# Altium footprint library FQFP (0.3mm Pitch, Square) - Corner Index.PcbLib: 26 footprints (part 2 of 3)
Each footprint in its own frame and in the unit in brackets; x right, y up, seen from the top. Pads: shape width x height; smd on the part's side, far side on the other; paste and mask are expansions set on the pad; w line width, h text height; cw(c..) or ccw(c..) is an arc to the next point about the centre after c.
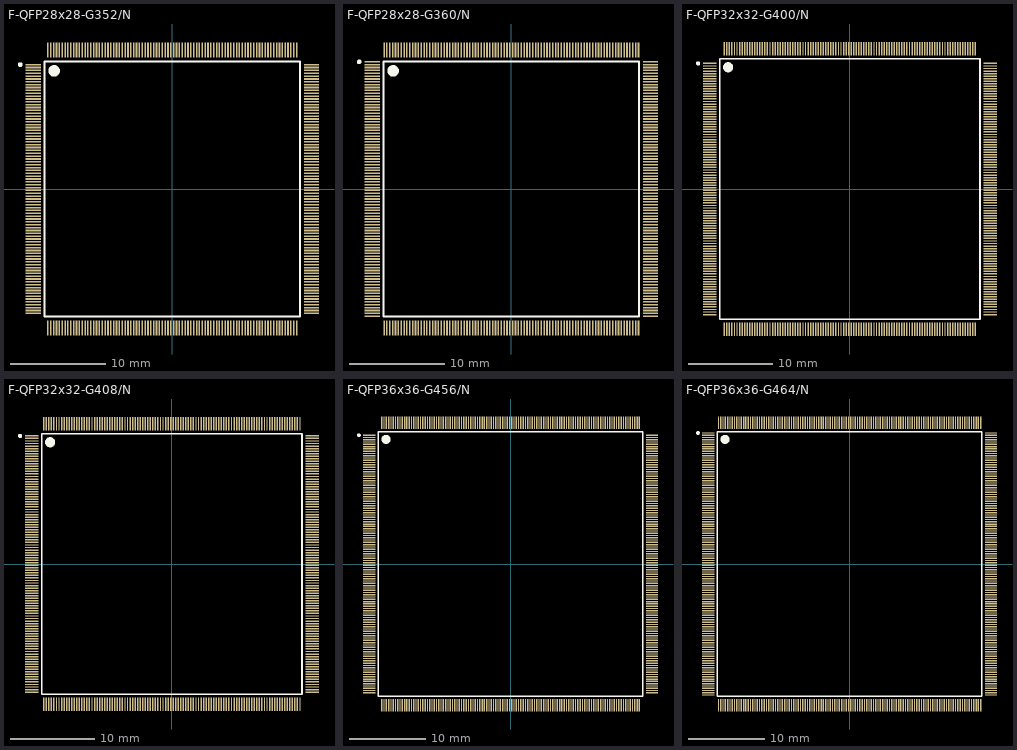
[diagram p1: the footprints below, top view; thin cyan lines are the x and y axes]

## F-QFP28x28-G352/N [mm] "QFP; 352 Leads; Body 28 x 28 mm; Pitch 0.3 mm"
height 3.75
pads (352):
  rect 1.6x0.17 smd: 1(-14.6,13.05) 2(-14.6,12.75) 3(-14.6,12.45) 4(-14.6,12.15) 5(-14.6,11.85) 6(-14.6,11.55) 7(-14.6,11.25) 8(-14.6,10.95) 9(-14.6,10.65) 10(-14.6,10.35) 11(-14.6,10.05) 12(-14.6,9.75) 13(-14.6,9.45) 14(-14.6,9.15) 15(-14.6,8.85) 16(-14.6,8.55) 17(-14.6,8.25) 18(-14.6,7.95) 19(-14.6,7.65) 20(-14.6,7.35) 21(-14.6,7.05) 22(-14.6,6.75) 23(-14.6,6.45) 24(-14.6,6.15) 25(-14.6,5.85) 26(-14.6,5.55) 27(-14.6,5.25) 28(-14.6,4.95) 29(-14.6,4.65) 30(-14.6,4.35) 31(-14.6,4.05) 32(-14.6,3.75) 33(-14.6,3.45) 34(-14.6,3.15) 35(-14.6,2.85) 36(-14.6,2.55) 37(-14.6,2.25) 38(-14.6,1.95) 39(-14.6,1.65) 40(-14.6,1.35) 41(-14.6,1.05) 42(-14.6,0.75) 43(-14.6,0.45) 44(-14.6,0.15) 45(-14.6,-0.15) 46(-14.6,-0.45) 47(-14.6,-0.75) 48(-14.6,-1.05) 49(-14.6,-1.35) 50(-14.6,-1.65) 51(-14.6,-1.95) 52(-14.6,-2.25) 53(-14.6,-2.55) 54(-14.6,-2.85) 55(-14.6,-3.15) 56(-14.6,-3.45) 57(-14.6,-3.75) 58(-14.6,-4.05) 59(-14.6,-4.35) 60(-14.6,-4.65) 61(-14.6,-4.95) 62(-14.6,-5.25) 63(-14.6,-5.55) 64(-14.6,-5.85) 65(-14.6,-6.15) 66(-14.6,-6.45) 67(-14.6,-6.75) 68(-14.6,-7.05) 69(-14.6,-7.35) 70(-14.6,-7.65) 71(-14.6,-7.95) 72(-14.6,-8.25) 73(-14.6,-8.55) 74(-14.6,-8.85) 75(-14.6,-9.15) 76(-14.6,-9.45) 77(-14.6,-9.75) 78(-14.6,-10.05) 79(-14.6,-10.35) 80(-14.6,-10.65) 81(-14.6,-10.95) 82(-14.6,-11.25) 83(-14.6,-11.55) 84(-14.6,-11.85) 85(-14.6,-12.15) 86(-14.6,-12.45) 87(-14.6,-12.75) 88(-14.6,-13.05) 177(14.6,-13.05) 178(14.6,-12.75) 179(14.6,-12.45) 180(14.6,-12.15) 181(14.6,-11.85) 182(14.6,-11.55) 183(14.6,-11.25) 184(14.6,-10.95) 185(14.6,-10.65) 186(14.6,-10.35) 187(14.6,-10.05) 188(14.6,-9.75) 189(14.6,-9.45) 190(14.6,-9.15) 191(14.6,-8.85) 192(14.6,-8.55) 193(14.6,-8.25) 194(14.6,-7.95) 195(14.6,-7.65) 196(14.6,-7.35) 197(14.6,-7.05) 198(14.6,-6.75) 199(14.6,-6.45) 200(14.6,-6.15) 201(14.6,-5.85) 202(14.6,-5.55) 203(14.6,-5.25) 204(14.6,-4.95) 205(14.6,-4.65) 206(14.6,-4.35) 207(14.6,-4.05) 208(14.6,-3.75) 209(14.6,-3.45) 210(14.6,-3.15) 211(14.6,-2.85) 212(14.6,-2.55) 213(14.6,-2.25) 214(14.6,-1.95) 215(14.6,-1.65) 216(14.6,-1.35) 217(14.6,-1.05) 218(14.6,-0.75) 219(14.6,-0.45) 220(14.6,-0.15) 221(14.6,0.15) 222(14.6,0.45) 223(14.6,0.75) 224(14.6,1.05) 225(14.6,1.35) 226(14.6,1.65) 227(14.6,1.95) 228(14.6,2.25) 229(14.6,2.55) 230(14.6,2.85) 231(14.6,3.15) 232(14.6,3.45) 233(14.6,3.75) 234(14.6,4.05) 235(14.6,4.35) 236(14.6,4.65) 237(14.6,4.95) 238(14.6,5.25) 239(14.6,5.55) 240(14.6,5.85) 241(14.6,6.15) 242(14.6,6.45) 243(14.6,6.75) 244(14.6,7.05) 245(14.6,7.35) 246(14.6,7.65) 247(14.6,7.95) 248(14.6,8.25) 249(14.6,8.55) 250(14.6,8.85) 251(14.6,9.15) 252(14.6,9.45) 253(14.6,9.75) 254(14.6,10.05) 255(14.6,10.35) 256(14.6,10.65) 257(14.6,10.95) 258(14.6,11.25) 259(14.6,11.55) 260(14.6,11.85) 261(14.6,12.15) 262(14.6,12.45) 263(14.6,12.75) 264(14.6,13.05)
  rect 0.17x1.6 smd: 89(-13.05,-14.6) 90(-12.75,-14.6) 91(-12.45,-14.6) 92(-12.15,-14.6) 93(-11.85,-14.6) 94(-11.55,-14.6) 95(-11.25,-14.6) 96(-10.95,-14.6) 97(-10.65,-14.6) 98(-10.35,-14.6) 99(-10.05,-14.6) 100(-9.75,-14.6) 101(-9.45,-14.6) 102(-9.15,-14.6) 103(-8.85,-14.6) 104(-8.55,-14.6) 105(-8.25,-14.6) 106(-7.95,-14.6) 107(-7.65,-14.6) 108(-7.35,-14.6) 109(-7.05,-14.6) 110(-6.75,-14.6) 111(-6.45,-14.6) 112(-6.15,-14.6) 113(-5.85,-14.6) 114(-5.55,-14.6) 115(-5.25,-14.6) 116(-4.95,-14.6) 117(-4.65,-14.6) 118(-4.35,-14.6) 119(-4.05,-14.6) 120(-3.75,-14.6) 121(-3.45,-14.6) 122(-3.15,-14.6) 123(-2.85,-14.6) 124(-2.55,-14.6) 125(-2.25,-14.6) 126(-1.95,-14.6) 127(-1.65,-14.6) 128(-1.35,-14.6) 129(-1.05,-14.6) 130(-0.75,-14.6) 131(-0.45,-14.6) 132(-0.15,-14.6) 133(0.15,-14.6) 134(0.45,-14.6) 135(0.75,-14.6) 136(1.05,-14.6) 137(1.35,-14.6) 138(1.65,-14.6) 139(1.95,-14.6) 140(2.25,-14.6) 141(2.55,-14.6) 142(2.85,-14.6) 143(3.15,-14.6) 144(3.45,-14.6) 145(3.75,-14.6) 146(4.05,-14.6) 147(4.35,-14.6) 148(4.65,-14.6) 149(4.95,-14.6) 150(5.25,-14.6) 151(5.55,-14.6) 152(5.85,-14.6) 153(6.15,-14.6) 154(6.45,-14.6) 155(6.75,-14.6) 156(7.05,-14.6) 157(7.35,-14.6) 158(7.65,-14.6) 159(7.95,-14.6) 160(8.25,-14.6) 161(8.55,-14.6) 162(8.85,-14.6) 163(9.15,-14.6) 164(9.45,-14.6) 165(9.75,-14.6) 166(10.05,-14.6) 167(10.35,-14.6) 168(10.65,-14.6) 169(10.95,-14.6) 170(11.25,-14.6) 171(11.55,-14.6) 172(11.85,-14.6) 173(12.15,-14.6) 174(12.45,-14.6) 175(12.75,-14.6) 176(13.05,-14.6) 265(13.05,14.6) 266(12.75,14.6) 267(12.45,14.6) 268(12.15,14.6) 269(11.85,14.6) 270(11.55,14.6) 271(11.25,14.6) 272(10.95,14.6) 273(10.65,14.6) 274(10.35,14.6) 275(10.05,14.6) 276(9.75,14.6) 277(9.45,14.6) 278(9.15,14.6) 279(8.85,14.6) 280(8.55,14.6) 281(8.25,14.6) 282(7.95,14.6) 283(7.65,14.6) 284(7.35,14.6) 285(7.05,14.6) 286(6.75,14.6) 287(6.45,14.6) 288(6.15,14.6) 289(5.85,14.6) 290(5.55,14.6) 291(5.25,14.6) 292(4.95,14.6) 293(4.65,14.6) 294(4.35,14.6) 295(4.05,14.6) 296(3.75,14.6) 297(3.45,14.6) 298(3.15,14.6) 299(2.85,14.6) 300(2.55,14.6) 301(2.25,14.6) 302(1.95,14.6) 303(1.65,14.6) 304(1.35,14.6) 305(1.05,14.6) 306(0.75,14.6) 307(0.45,14.6) 308(0.15,14.6) 309(-0.15,14.6) 310(-0.45,14.6) 311(-0.75,14.6) 312(-1.05,14.6) 313(-1.35,14.6) 314(-1.65,14.6) 315(-1.95,14.6) 316(-2.25,14.6) 317(-2.55,14.6) 318(-2.85,14.6) 319(-3.15,14.6) 320(-3.45,14.6) 321(-3.75,14.6) 322(-4.05,14.6) 323(-4.35,14.6) 324(-4.65,14.6) 325(-4.95,14.6) 326(-5.25,14.6) 327(-5.55,14.6) 328(-5.85,14.6) 329(-6.15,14.6) 330(-6.45,14.6) 331(-6.75,14.6) 332(-7.05,14.6) 333(-7.35,14.6) 334(-7.65,14.6) 335(-7.95,14.6) 336(-8.25,14.6) 337(-8.55,14.6) 338(-8.85,14.6) 339(-9.15,14.6) 340(-9.45,14.6) 341(-9.75,14.6) 342(-10.05,14.6) 343(-10.35,14.6) 344(-10.65,14.6) 345(-10.95,14.6) 346(-11.25,14.6) 347(-11.55,14.6) 348(-11.85,14.6) 349(-12.15,14.6) 350(-12.45,14.6) 351(-12.75,14.6) 352(-13.05,14.6)
Top Overlay:
  circle w0.25: c-15.96,13.05 r0.125
  circle w0.6: c-12.4,12.4 r0.3
  lines w0.2: -13.4,-13.4 13.4,-13.4 13.4,13.4 -13.4,13.4 -13.4,-13.4

## F-QFP28x28-G360/N [mm] "QFP; 360 Leads; Body 28 x 28 mm; Pitch 0.3 mm"
height 3.75
pads (360):
  rect 1.6x0.17 smd: 1(-14.6,13.35) 2(-14.6,13.05) 3(-14.6,12.75) 4(-14.6,12.45) 5(-14.6,12.15) 6(-14.6,11.85) 7(-14.6,11.55) 8(-14.6,11.25) 9(-14.6,10.95) 10(-14.6,10.65) 11(-14.6,10.35) 12(-14.6,10.05) 13(-14.6,9.75) 14(-14.6,9.45) 15(-14.6,9.15) 16(-14.6,8.85) 17(-14.6,8.55) 18(-14.6,8.25) 19(-14.6,7.95) 20(-14.6,7.65) 21(-14.6,7.35) 22(-14.6,7.05) 23(-14.6,6.75) 24(-14.6,6.45) 25(-14.6,6.15) 26(-14.6,5.85) 27(-14.6,5.55) 28(-14.6,5.25) 29(-14.6,4.95) 30(-14.6,4.65) 31(-14.6,4.35) 32(-14.6,4.05) 33(-14.6,3.75) 34(-14.6,3.45) 35(-14.6,3.15) 36(-14.6,2.85) 37(-14.6,2.55) 38(-14.6,2.25) 39(-14.6,1.95) 40(-14.6,1.65) 41(-14.6,1.35) 42(-14.6,1.05) 43(-14.6,0.75) 44(-14.6,0.45) 45(-14.6,0.15) 46(-14.6,-0.15) 47(-14.6,-0.45) 48(-14.6,-0.75) 49(-14.6,-1.05) 50(-14.6,-1.35) 51(-14.6,-1.65) 52(-14.6,-1.95) 53(-14.6,-2.25) 54(-14.6,-2.55) 55(-14.6,-2.85) 56(-14.6,-3.15) 57(-14.6,-3.45) 58(-14.6,-3.75) 59(-14.6,-4.05) 60(-14.6,-4.35) 61(-14.6,-4.65) 62(-14.6,-4.95) 63(-14.6,-5.25) 64(-14.6,-5.55) 65(-14.6,-5.85) 66(-14.6,-6.15) 67(-14.6,-6.45) 68(-14.6,-6.75) 69(-14.6,-7.05) 70(-14.6,-7.35) 71(-14.6,-7.65) 72(-14.6,-7.95) 73(-14.6,-8.25) 74(-14.6,-8.55) 75(-14.6,-8.85) 76(-14.6,-9.15) 77(-14.6,-9.45) 78(-14.6,-9.75) 79(-14.6,-10.05) 80(-14.6,-10.35) 81(-14.6,-10.65) 82(-14.6,-10.95) 83(-14.6,-11.25) 84(-14.6,-11.55) 85(-14.6,-11.85) 86(-14.6,-12.15) 87(-14.6,-12.45) 88(-14.6,-12.75) 89(-14.6,-13.05) 90(-14.6,-13.35) 181(14.6,-13.35) 182(14.6,-13.05) 183(14.6,-12.75) 184(14.6,-12.45) 185(14.6,-12.15) 186(14.6,-11.85) 187(14.6,-11.55) 188(14.6,-11.25) 189(14.6,-10.95) 190(14.6,-10.65) 191(14.6,-10.35) 192(14.6,-10.05) 193(14.6,-9.75) 194(14.6,-9.45) 195(14.6,-9.15) 196(14.6,-8.85) 197(14.6,-8.55) 198(14.6,-8.25) 199(14.6,-7.95) 200(14.6,-7.65) 201(14.6,-7.35) 202(14.6,-7.05) 203(14.6,-6.75) 204(14.6,-6.45) 205(14.6,-6.15) 206(14.6,-5.85) 207(14.6,-5.55) 208(14.6,-5.25) 209(14.6,-4.95) 210(14.6,-4.65) 211(14.6,-4.35) 212(14.6,-4.05) 213(14.6,-3.75) 214(14.6,-3.45) 215(14.6,-3.15) 216(14.6,-2.85) 217(14.6,-2.55) 218(14.6,-2.25) 219(14.6,-1.95) 220(14.6,-1.65) 221(14.6,-1.35) 222(14.6,-1.05) 223(14.6,-0.75) 224(14.6,-0.45) 225(14.6,-0.15) 226(14.6,0.15) 227(14.6,0.45) 228(14.6,0.75) 229(14.6,1.05) 230(14.6,1.35) 231(14.6,1.65) 232(14.6,1.95) 233(14.6,2.25) 234(14.6,2.55) 235(14.6,2.85) 236(14.6,3.15) 237(14.6,3.45) 238(14.6,3.75) 239(14.6,4.05) 240(14.6,4.35) 241(14.6,4.65) 242(14.6,4.95) 243(14.6,5.25) 244(14.6,5.55) 245(14.6,5.85) 246(14.6,6.15) 247(14.6,6.45) 248(14.6,6.75) 249(14.6,7.05) 250(14.6,7.35) 251(14.6,7.65) 252(14.6,7.95) 253(14.6,8.25) 254(14.6,8.55) 255(14.6,8.85) 256(14.6,9.15) 257(14.6,9.45) 258(14.6,9.75) 259(14.6,10.05) 260(14.6,10.35) 261(14.6,10.65) 262(14.6,10.95) 263(14.6,11.25) 264(14.6,11.55) 265(14.6,11.85) 266(14.6,12.15) 267(14.6,12.45) 268(14.6,12.75) 269(14.6,13.05) 270(14.6,13.35)
  rect 0.17x1.6 smd: 91(-13.35,-14.6) 92(-13.05,-14.6) 93(-12.75,-14.6) 94(-12.45,-14.6) 95(-12.15,-14.6) 96(-11.85,-14.6) 97(-11.55,-14.6) 98(-11.25,-14.6) 99(-10.95,-14.6) 100(-10.65,-14.6) 101(-10.35,-14.6) 102(-10.05,-14.6) 103(-9.75,-14.6) 104(-9.45,-14.6) 105(-9.15,-14.6) 106(-8.85,-14.6) 107(-8.55,-14.6) 108(-8.25,-14.6) 109(-7.95,-14.6) 110(-7.65,-14.6) 111(-7.35,-14.6) 112(-7.05,-14.6) 113(-6.75,-14.6) 114(-6.45,-14.6) 115(-6.15,-14.6) 116(-5.85,-14.6) 117(-5.55,-14.6) 118(-5.25,-14.6) 119(-4.95,-14.6) 120(-4.65,-14.6) 121(-4.35,-14.6) 122(-4.05,-14.6) 123(-3.75,-14.6) 124(-3.45,-14.6) 125(-3.15,-14.6) 126(-2.85,-14.6) 127(-2.55,-14.6) 128(-2.25,-14.6) 129(-1.95,-14.6) 130(-1.65,-14.6) 131(-1.35,-14.6) 132(-1.05,-14.6) 133(-0.75,-14.6) 134(-0.45,-14.6) 135(-0.15,-14.6) 136(0.15,-14.6) 137(0.45,-14.6) 138(0.75,-14.6) 139(1.05,-14.6) 140(1.35,-14.6) 141(1.65,-14.6) 142(1.95,-14.6) 143(2.25,-14.6) 144(2.55,-14.6) 145(2.85,-14.6) 146(3.15,-14.6) 147(3.45,-14.6) 148(3.75,-14.6) 149(4.05,-14.6) 150(4.35,-14.6) 151(4.65,-14.6) 152(4.95,-14.6) 153(5.25,-14.6) 154(5.55,-14.6) 155(5.85,-14.6) 156(6.15,-14.6) 157(6.45,-14.6) 158(6.75,-14.6) 159(7.05,-14.6) 160(7.35,-14.6) 161(7.65,-14.6) 162(7.95,-14.6) 163(8.25,-14.6) 164(8.55,-14.6) 165(8.85,-14.6) 166(9.15,-14.6) 167(9.45,-14.6) 168(9.75,-14.6) 169(10.05,-14.6) 170(10.35,-14.6) 171(10.65,-14.6) 172(10.95,-14.6) 173(11.25,-14.6) 174(11.55,-14.6) 175(11.85,-14.6) 176(12.15,-14.6) 177(12.45,-14.6) 178(12.75,-14.6) 179(13.05,-14.6) 180(13.35,-14.6) 271(13.35,14.6) 272(13.05,14.6) 273(12.75,14.6) 274(12.45,14.6) 275(12.15,14.6) 276(11.85,14.6) 277(11.55,14.6) 278(11.25,14.6) 279(10.95,14.6) 280(10.65,14.6) 281(10.35,14.6) 282(10.05,14.6) 283(9.75,14.6) 284(9.45,14.6) 285(9.15,14.6) 286(8.85,14.6) 287(8.55,14.6) 288(8.25,14.6) 289(7.95,14.6) 290(7.65,14.6) 291(7.35,14.6) 292(7.05,14.6) 293(6.75,14.6) 294(6.45,14.6) 295(6.15,14.6) 296(5.85,14.6) 297(5.55,14.6) 298(5.25,14.6) 299(4.95,14.6) 300(4.65,14.6) 301(4.35,14.6) 302(4.05,14.6) 303(3.75,14.6) 304(3.45,14.6) 305(3.15,14.6) 306(2.85,14.6) 307(2.55,14.6) 308(2.25,14.6) 309(1.95,14.6) 310(1.65,14.6) 311(1.35,14.6) 312(1.05,14.6) 313(0.75,14.6) 314(0.45,14.6) 315(0.15,14.6) 316(-0.15,14.6) 317(-0.45,14.6) 318(-0.75,14.6) 319(-1.05,14.6) 320(-1.35,14.6) 321(-1.65,14.6) 322(-1.95,14.6) 323(-2.25,14.6) 324(-2.55,14.6) 325(-2.85,14.6) 326(-3.15,14.6) 327(-3.45,14.6) 328(-3.75,14.6) 329(-4.05,14.6) 330(-4.35,14.6) 331(-4.65,14.6) 332(-4.95,14.6) 333(-5.25,14.6) 334(-5.55,14.6) 335(-5.85,14.6) 336(-6.15,14.6) 337(-6.45,14.6) 338(-6.75,14.6) 339(-7.05,14.6) 340(-7.35,14.6) 341(-7.65,14.6) 342(-7.95,14.6) 343(-8.25,14.6) 344(-8.55,14.6) 345(-8.85,14.6) 346(-9.15,14.6) 347(-9.45,14.6) 348(-9.75,14.6) 349(-10.05,14.6) 350(-10.35,14.6) 351(-10.65,14.6) 352(-10.95,14.6) 353(-11.25,14.6) 354(-11.55,14.6) 355(-11.85,14.6) 356(-12.15,14.6) 357(-12.45,14.6) 358(-12.75,14.6) 359(-13.05,14.6) 360(-13.35,14.6)
Top Overlay:
  circle w0.6: c-12.4,12.4 r0.3
  circle w0.25: c-15.96,13.35 r0.125
  lines w0.2: -13.4,-13.4 -13.4,13.4 13.4,13.4 13.4,-13.4 -13.4,-13.4

## F-QFP32x32-G400/N [mm] "QFP; 400 Leads; Body 32 x 32 mm; Pitch 0.3 mm"
height 4.2
pads (400):
  rect 1.6x0.17 smd: 1(-16.6,14.85) 2(-16.6,14.55) 3(-16.6,14.25) 4(-16.6,13.95) 5(-16.6,13.65) 6(-16.6,13.35) 7(-16.6,13.05) 8(-16.6,12.75) 9(-16.6,12.45) 10(-16.6,12.15) 11(-16.6,11.85) 12(-16.6,11.55) 13(-16.6,11.25) 14(-16.6,10.95) 15(-16.6,10.65) 16(-16.6,10.35) 17(-16.6,10.05) 18(-16.6,9.75) 19(-16.6,9.45) 20(-16.6,9.15) 21(-16.6,8.85) 22(-16.6,8.55) 23(-16.6,8.25) 24(-16.6,7.95) 25(-16.6,7.65) 26(-16.6,7.35) 27(-16.6,7.05) 28(-16.6,6.75) 29(-16.6,6.45) 30(-16.6,6.15) 31(-16.6,5.85) 32(-16.6,5.55) 33(-16.6,5.25) 34(-16.6,4.95) 35(-16.6,4.65) 36(-16.6,4.35) 37(-16.6,4.05) 38(-16.6,3.75) 39(-16.6,3.45) 40(-16.6,3.15) 41(-16.6,2.85) 42(-16.6,2.55) 43(-16.6,2.25) 44(-16.6,1.95) 45(-16.6,1.65) 46(-16.6,1.35) 47(-16.6,1.05) 48(-16.6,0.75) 49(-16.6,0.45) 50(-16.6,0.15) 51(-16.6,-0.15) 52(-16.6,-0.45) 53(-16.6,-0.75) 54(-16.6,-1.05) 55(-16.6,-1.35) 56(-16.6,-1.65) 57(-16.6,-1.95) 58(-16.6,-2.25) 59(-16.6,-2.55) 60(-16.6,-2.85) 61(-16.6,-3.15) 62(-16.6,-3.45) 63(-16.6,-3.75) 64(-16.6,-4.05) 65(-16.6,-4.35) 66(-16.6,-4.65) 67(-16.6,-4.95) 68(-16.6,-5.25) 69(-16.6,-5.55) 70(-16.6,-5.85) 71(-16.6,-6.15) 72(-16.6,-6.45) 73(-16.6,-6.75) 74(-16.6,-7.05) 75(-16.6,-7.35) 76(-16.6,-7.65) 77(-16.6,-7.95) 78(-16.6,-8.25) 79(-16.6,-8.55) 80(-16.6,-8.85) 81(-16.6,-9.15) 82(-16.6,-9.45) 83(-16.6,-9.75) 84(-16.6,-10.05) 85(-16.6,-10.35) 86(-16.6,-10.65) 87(-16.6,-10.95) 88(-16.6,-11.25) 89(-16.6,-11.55) 90(-16.6,-11.85) 91(-16.6,-12.15) 92(-16.6,-12.45) 93(-16.6,-12.75) 94(-16.6,-13.05) 95(-16.6,-13.35) 96(-16.6,-13.65) 97(-16.6,-13.95) 98(-16.6,-14.25) 99(-16.6,-14.55) 100(-16.6,-14.85) 201(16.6,-14.85) 202(16.6,-14.55) 203(16.6,-14.25) 204(16.6,-13.95) 205(16.6,-13.65) 206(16.6,-13.35) 207(16.6,-13.05) 208(16.6,-12.75) 209(16.6,-12.45) 210(16.6,-12.15) 211(16.6,-11.85) 212(16.6,-11.55) 213(16.6,-11.25) 214(16.6,-10.95) 215(16.6,-10.65) 216(16.6,-10.35) 217(16.6,-10.05) 218(16.6,-9.75) 219(16.6,-9.45) 220(16.6,-9.15) 221(16.6,-8.85) 222(16.6,-8.55) 223(16.6,-8.25) 224(16.6,-7.95) 225(16.6,-7.65) 226(16.6,-7.35) 227(16.6,-7.05) 228(16.6,-6.75) 229(16.6,-6.45) 230(16.6,-6.15) 231(16.6,-5.85) 232(16.6,-5.55) 233(16.6,-5.25) 234(16.6,-4.95) 235(16.6,-4.65) 236(16.6,-4.35) 237(16.6,-4.05) 238(16.6,-3.75) 239(16.6,-3.45) 240(16.6,-3.15) 241(16.6,-2.85) 242(16.6,-2.55) 243(16.6,-2.25) 244(16.6,-1.95) 245(16.6,-1.65) 246(16.6,-1.35) 247(16.6,-1.05) 248(16.6,-0.75) 249(16.6,-0.45) 250(16.6,-0.15) 251(16.6,0.15) 252(16.6,0.45) 253(16.6,0.75) 254(16.6,1.05) 255(16.6,1.35) 256(16.6,1.65) 257(16.6,1.95) 258(16.6,2.25) 259(16.6,2.55) 260(16.6,2.85) 261(16.6,3.15) 262(16.6,3.45) 263(16.6,3.75) 264(16.6,4.05) 265(16.6,4.35) 266(16.6,4.65) 267(16.6,4.95) 268(16.6,5.25) 269(16.6,5.55) 270(16.6,5.85) 271(16.6,6.15) 272(16.6,6.45) 273(16.6,6.75) 274(16.6,7.05) 275(16.6,7.35) 276(16.6,7.65) 277(16.6,7.95) 278(16.6,8.25) 279(16.6,8.55) 280(16.6,8.85) 281(16.6,9.15) 282(16.6,9.45) 283(16.6,9.75) 284(16.6,10.05) 285(16.6,10.35) 286(16.6,10.65) 287(16.6,10.95) 288(16.6,11.25) 289(16.6,11.55) 290(16.6,11.85) 291(16.6,12.15) 292(16.6,12.45) 293(16.6,12.75) 294(16.6,13.05) 295(16.6,13.35) 296(16.6,13.65) 297(16.6,13.95) 298(16.6,14.25) 299(16.6,14.55) 300(16.6,14.85)
  rect 0.17x1.6 smd: 101(-14.85,-16.6) 102(-14.55,-16.6) 103(-14.25,-16.6) 104(-13.95,-16.6) 105(-13.65,-16.6) 106(-13.35,-16.6) 107(-13.05,-16.6) 108(-12.75,-16.6) 109(-12.45,-16.6) 110(-12.15,-16.6) 111(-11.85,-16.6) 112(-11.55,-16.6) 113(-11.25,-16.6) 114(-10.95,-16.6) 115(-10.65,-16.6) 116(-10.35,-16.6) 117(-10.05,-16.6) 118(-9.75,-16.6) 119(-9.45,-16.6) 120(-9.15,-16.6) 121(-8.85,-16.6) 122(-8.55,-16.6) 123(-8.25,-16.6) 124(-7.95,-16.6) 125(-7.65,-16.6) 126(-7.35,-16.6) 127(-7.05,-16.6) 128(-6.75,-16.6) 129(-6.45,-16.6) 130(-6.15,-16.6) 131(-5.85,-16.6) 132(-5.55,-16.6) 133(-5.25,-16.6) 134(-4.95,-16.6) 135(-4.65,-16.6) 136(-4.35,-16.6) 137(-4.05,-16.6) 138(-3.75,-16.6) 139(-3.45,-16.6) 140(-3.15,-16.6) 141(-2.85,-16.6) 142(-2.55,-16.6) 143(-2.25,-16.6) 144(-1.95,-16.6) 145(-1.65,-16.6) 146(-1.35,-16.6) 147(-1.05,-16.6) 148(-0.75,-16.6) 149(-0.45,-16.6) 150(-0.15,-16.6) 151(0.15,-16.6) 152(0.45,-16.6) 153(0.75,-16.6) 154(1.05,-16.6) 155(1.35,-16.6) 156(1.65,-16.6) 157(1.95,-16.6) 158(2.25,-16.6) 159(2.55,-16.6) 160(2.85,-16.6) 161(3.15,-16.6) 162(3.45,-16.6) 163(3.75,-16.6) 164(4.05,-16.6) 165(4.35,-16.6) 166(4.65,-16.6) 167(4.95,-16.6) 168(5.25,-16.6) 169(5.55,-16.6) 170(5.85,-16.6) 171(6.15,-16.6) 172(6.45,-16.6) 173(6.75,-16.6) 174(7.05,-16.6) 175(7.35,-16.6) 176(7.65,-16.6) 177(7.95,-16.6) 178(8.25,-16.6) 179(8.55,-16.6) 180(8.85,-16.6) 181(9.15,-16.6) 182(9.45,-16.6) 183(9.75,-16.6) 184(10.05,-16.6) 185(10.35,-16.6) 186(10.65,-16.6) 187(10.95,-16.6) 188(11.25,-16.6) 189(11.55,-16.6) 190(11.85,-16.6) 191(12.15,-16.6) 192(12.45,-16.6) 193(12.75,-16.6) 194(13.05,-16.6) 195(13.35,-16.6) 196(13.65,-16.6) 197(13.95,-16.6) 198(14.25,-16.6) 199(14.55,-16.6) 200(14.85,-16.6) 301(14.85,16.6) 302(14.55,16.6) 303(14.25,16.6) 304(13.95,16.6) 305(13.65,16.6) 306(13.35,16.6) 307(13.05,16.6) 308(12.75,16.6) 309(12.45,16.6) 310(12.15,16.6) 311(11.85,16.6) 312(11.55,16.6) 313(11.25,16.6) 314(10.95,16.6) 315(10.65,16.6) 316(10.35,16.6) 317(10.05,16.6) 318(9.75,16.6) 319(9.45,16.6) 320(9.15,16.6) 321(8.85,16.6) 322(8.55,16.6) 323(8.25,16.6) 324(7.95,16.6) 325(7.65,16.6) 326(7.35,16.6) 327(7.05,16.6) 328(6.75,16.6) 329(6.45,16.6) 330(6.15,16.6) 331(5.85,16.6) 332(5.55,16.6) 333(5.25,16.6) 334(4.95,16.6) 335(4.65,16.6) 336(4.35,16.6) 337(4.05,16.6) 338(3.75,16.6) 339(3.45,16.6) 340(3.15,16.6) 341(2.85,16.6) 342(2.55,16.6) 343(2.25,16.6) 344(1.95,16.6) 345(1.65,16.6) 346(1.35,16.6) 347(1.05,16.6) 348(0.75,16.6) 349(0.45,16.6) 350(0.15,16.6) 351(-0.15,16.6) 352(-0.45,16.6) 353(-0.75,16.6) 354(-1.05,16.6) 355(-1.35,16.6) 356(-1.65,16.6) 357(-1.95,16.6) 358(-2.25,16.6) 359(-2.55,16.6) 360(-2.85,16.6) 361(-3.15,16.6) 362(-3.45,16.6) 363(-3.75,16.6) 364(-4.05,16.6) 365(-4.35,16.6) 366(-4.65,16.6) 367(-4.95,16.6) 368(-5.25,16.6) 369(-5.55,16.6) 370(-5.85,16.6) 371(-6.15,16.6) 372(-6.45,16.6) 373(-6.75,16.6) 374(-7.05,16.6) 375(-7.35,16.6) 376(-7.65,16.6) 377(-7.95,16.6) 378(-8.25,16.6) 379(-8.55,16.6) 380(-8.85,16.6) 381(-9.15,16.6) 382(-9.45,16.6) 383(-9.75,16.6) 384(-10.05,16.6) 385(-10.35,16.6) 386(-10.65,16.6) 387(-10.95,16.6) 388(-11.25,16.6) 389(-11.55,16.6) 390(-11.85,16.6) 391(-12.15,16.6) 392(-12.45,16.6) 393(-12.75,16.6) 394(-13.05,16.6) 395(-13.35,16.6) 396(-13.65,16.6) 397(-13.95,16.6) 398(-14.25,16.6) 399(-14.55,16.6) 400(-14.85,16.6)
Top Overlay:
  circle w0.25: c-17.96,14.85 r0.125
  circle w0.6: c-14.4,14.4 r0.3
  lines w0.2: -15.4,-15.4 15.4,-15.4 15.4,15.4 -15.4,15.4 -15.4,-15.4

## F-QFP32x32-G408/N [mm] "QFP; 408 Leads; Body 32 x 32 mm; Pitch 0.3 mm"
height 4.2
pads (408):
  rect 1.6x0.17 smd: 1(-16.6,15.15) 2(-16.6,14.85) 3(-16.6,14.55) 4(-16.6,14.25) 5(-16.6,13.95) 6(-16.6,13.65) 7(-16.6,13.35) 8(-16.6,13.05) 9(-16.6,12.75) 10(-16.6,12.45) 11(-16.6,12.15) 12(-16.6,11.85) 13(-16.6,11.55) 14(-16.6,11.25) 15(-16.6,10.95) 16(-16.6,10.65) 17(-16.6,10.35) 18(-16.6,10.05) 19(-16.6,9.75) 20(-16.6,9.45) 21(-16.6,9.15) 22(-16.6,8.85) 23(-16.6,8.55) 24(-16.6,8.25) 25(-16.6,7.95) 26(-16.6,7.65) 27(-16.6,7.35) 28(-16.6,7.05) 29(-16.6,6.75) 30(-16.6,6.45) 31(-16.6,6.15) 32(-16.6,5.85) 33(-16.6,5.55) 34(-16.6,5.25) 35(-16.6,4.95) 36(-16.6,4.65) 37(-16.6,4.35) 38(-16.6,4.05) 39(-16.6,3.75) 40(-16.6,3.45) 41(-16.6,3.15) 42(-16.6,2.85) 43(-16.6,2.55) 44(-16.6,2.25) 45(-16.6,1.95) 46(-16.6,1.65) 47(-16.6,1.35) 48(-16.6,1.05) 49(-16.6,0.75) 50(-16.6,0.45) 51(-16.6,0.15) 52(-16.6,-0.15) 53(-16.6,-0.45) 54(-16.6,-0.75) 55(-16.6,-1.05) 56(-16.6,-1.35) 57(-16.6,-1.65) 58(-16.6,-1.95) 59(-16.6,-2.25) 60(-16.6,-2.55) 61(-16.6,-2.85) 62(-16.6,-3.15) 63(-16.6,-3.45) 64(-16.6,-3.75) 65(-16.6,-4.05) 66(-16.6,-4.35) 67(-16.6,-4.65) 68(-16.6,-4.95) 69(-16.6,-5.25) 70(-16.6,-5.55) 71(-16.6,-5.85) 72(-16.6,-6.15) 73(-16.6,-6.45) 74(-16.6,-6.75) 75(-16.6,-7.05) 76(-16.6,-7.35) 77(-16.6,-7.65) 78(-16.6,-7.95) 79(-16.6,-8.25) 80(-16.6,-8.55) 81(-16.6,-8.85) 82(-16.6,-9.15) 83(-16.6,-9.45) 84(-16.6,-9.75) 85(-16.6,-10.05) 86(-16.6,-10.35) 87(-16.6,-10.65) 88(-16.6,-10.95) 89(-16.6,-11.25) 90(-16.6,-11.55) 91(-16.6,-11.85) 92(-16.6,-12.15) 93(-16.6,-12.45) 94(-16.6,-12.75) 95(-16.6,-13.05) 96(-16.6,-13.35) 97(-16.6,-13.65) 98(-16.6,-13.95) 99(-16.6,-14.25) 100(-16.6,-14.55) 101(-16.6,-14.85) 102(-16.6,-15.15) 205(16.6,-15.15) 206(16.6,-14.85) 207(16.6,-14.55) 208(16.6,-14.25) 209(16.6,-13.95) 210(16.6,-13.65) 211(16.6,-13.35) 212(16.6,-13.05) 213(16.6,-12.75) 214(16.6,-12.45) 215(16.6,-12.15) 216(16.6,-11.85) 217(16.6,-11.55) 218(16.6,-11.25) 219(16.6,-10.95) 220(16.6,-10.65) 221(16.6,-10.35) 222(16.6,-10.05) 223(16.6,-9.75) 224(16.6,-9.45) 225(16.6,-9.15) 226(16.6,-8.85) 227(16.6,-8.55) 228(16.6,-8.25) 229(16.6,-7.95) 230(16.6,-7.65) 231(16.6,-7.35) 232(16.6,-7.05) 233(16.6,-6.75) 234(16.6,-6.45) 235(16.6,-6.15) 236(16.6,-5.85) 237(16.6,-5.55) 238(16.6,-5.25) 239(16.6,-4.95) 240(16.6,-4.65) 241(16.6,-4.35) 242(16.6,-4.05) 243(16.6,-3.75) 244(16.6,-3.45) 245(16.6,-3.15) 246(16.6,-2.85) 247(16.6,-2.55) 248(16.6,-2.25) 249(16.6,-1.95) 250(16.6,-1.65) 251(16.6,-1.35) 252(16.6,-1.05) 253(16.6,-0.75) 254(16.6,-0.45) 255(16.6,-0.15) 256(16.6,0.15) 257(16.6,0.45) 258(16.6,0.75) 259(16.6,1.05) 260(16.6,1.35) 261(16.6,1.65) 262(16.6,1.95) 263(16.6,2.25) 264(16.6,2.55) 265(16.6,2.85) 266(16.6,3.15) 267(16.6,3.45) 268(16.6,3.75) 269(16.6,4.05) 270(16.6,4.35) 271(16.6,4.65) 272(16.6,4.95) 273(16.6,5.25) 274(16.6,5.55) 275(16.6,5.85) 276(16.6,6.15) 277(16.6,6.45) 278(16.6,6.75) 279(16.6,7.05) 280(16.6,7.35) 281(16.6,7.65) 282(16.6,7.95) 283(16.6,8.25) 284(16.6,8.55) 285(16.6,8.85) 286(16.6,9.15) 287(16.6,9.45) 288(16.6,9.75) 289(16.6,10.05) 290(16.6,10.35) 291(16.6,10.65) 292(16.6,10.95) 293(16.6,11.25) 294(16.6,11.55) 295(16.6,11.85) 296(16.6,12.15) 297(16.6,12.45) 298(16.6,12.75) 299(16.6,13.05) 300(16.6,13.35) 301(16.6,13.65) 302(16.6,13.95) 303(16.6,14.25) 304(16.6,14.55) 305(16.6,14.85) 306(16.6,15.15)
  rect 0.17x1.6 smd: 103(-15.15,-16.6) 104(-14.85,-16.6) 105(-14.55,-16.6) 106(-14.25,-16.6) 107(-13.95,-16.6) 108(-13.65,-16.6) 109(-13.35,-16.6) 110(-13.05,-16.6) 111(-12.75,-16.6) 112(-12.45,-16.6) 113(-12.15,-16.6) 114(-11.85,-16.6) 115(-11.55,-16.6) 116(-11.25,-16.6) 117(-10.95,-16.6) 118(-10.65,-16.6) 119(-10.35,-16.6) 120(-10.05,-16.6) 121(-9.75,-16.6) 122(-9.45,-16.6) 123(-9.15,-16.6) 124(-8.85,-16.6) 125(-8.55,-16.6) 126(-8.25,-16.6) 127(-7.95,-16.6) 128(-7.65,-16.6) 129(-7.35,-16.6) 130(-7.05,-16.6) 131(-6.75,-16.6) 132(-6.45,-16.6) 133(-6.15,-16.6) 134(-5.85,-16.6) 135(-5.55,-16.6) 136(-5.25,-16.6) 137(-4.95,-16.6) 138(-4.65,-16.6) 139(-4.35,-16.6) 140(-4.05,-16.6) 141(-3.75,-16.6) 142(-3.45,-16.6) 143(-3.15,-16.6) 144(-2.85,-16.6) 145(-2.55,-16.6) 146(-2.25,-16.6) 147(-1.95,-16.6) 148(-1.65,-16.6) 149(-1.35,-16.6) 150(-1.05,-16.6) 151(-0.75,-16.6) 152(-0.45,-16.6) 153(-0.15,-16.6) 154(0.15,-16.6) 155(0.45,-16.6) 156(0.75,-16.6) 157(1.05,-16.6) 158(1.35,-16.6) 159(1.65,-16.6) 160(1.95,-16.6) 161(2.25,-16.6) 162(2.55,-16.6) 163(2.85,-16.6) 164(3.15,-16.6) 165(3.45,-16.6) 166(3.75,-16.6) 167(4.05,-16.6) 168(4.35,-16.6) 169(4.65,-16.6) 170(4.95,-16.6) 171(5.25,-16.6) 172(5.55,-16.6) 173(5.85,-16.6) 174(6.15,-16.6) 175(6.45,-16.6) 176(6.75,-16.6) 177(7.05,-16.6) 178(7.35,-16.6) 179(7.65,-16.6) 180(7.95,-16.6) 181(8.25,-16.6) 182(8.55,-16.6) 183(8.85,-16.6) 184(9.15,-16.6) 185(9.45,-16.6) 186(9.75,-16.6) 187(10.05,-16.6) 188(10.35,-16.6) 189(10.65,-16.6) 190(10.95,-16.6) 191(11.25,-16.6) 192(11.55,-16.6) 193(11.85,-16.6) 194(12.15,-16.6) 195(12.45,-16.6) 196(12.75,-16.6) 197(13.05,-16.6) 198(13.35,-16.6) 199(13.65,-16.6) 200(13.95,-16.6) 201(14.25,-16.6) 202(14.55,-16.6) 203(14.85,-16.6) 204(15.15,-16.6) 307(15.15,16.6) 308(14.85,16.6) 309(14.55,16.6) 310(14.25,16.6) 311(13.95,16.6) 312(13.65,16.6) 313(13.35,16.6) 314(13.05,16.6) 315(12.75,16.6) 316(12.45,16.6) 317(12.15,16.6) 318(11.85,16.6) 319(11.55,16.6) 320(11.25,16.6) 321(10.95,16.6) 322(10.65,16.6) 323(10.35,16.6) 324(10.05,16.6) 325(9.75,16.6) 326(9.45,16.6) 327(9.15,16.6) 328(8.85,16.6) 329(8.55,16.6) 330(8.25,16.6) 331(7.95,16.6) 332(7.65,16.6) 333(7.35,16.6) 334(7.05,16.6) 335(6.75,16.6) 336(6.45,16.6) 337(6.15,16.6) 338(5.85,16.6) 339(5.55,16.6) 340(5.25,16.6) 341(4.95,16.6) 342(4.65,16.6) 343(4.35,16.6) 344(4.05,16.6) 345(3.75,16.6) 346(3.45,16.6) 347(3.15,16.6) 348(2.85,16.6) 349(2.55,16.6) 350(2.25,16.6) 351(1.95,16.6) 352(1.65,16.6) 353(1.35,16.6) 354(1.05,16.6) 355(0.75,16.6) 356(0.45,16.6) 357(0.15,16.6) 358(-0.15,16.6) 359(-0.45,16.6) 360(-0.75,16.6) 361(-1.05,16.6) 362(-1.35,16.6) 363(-1.65,16.6) 364(-1.95,16.6) 365(-2.25,16.6) 366(-2.55,16.6) 367(-2.85,16.6) 368(-3.15,16.6) 369(-3.45,16.6) 370(-3.75,16.6) 371(-4.05,16.6) 372(-4.35,16.6) 373(-4.65,16.6) 374(-4.95,16.6) 375(-5.25,16.6) 376(-5.55,16.6) 377(-5.85,16.6) 378(-6.15,16.6) 379(-6.45,16.6) 380(-6.75,16.6) 381(-7.05,16.6) 382(-7.35,16.6) 383(-7.65,16.6) 384(-7.95,16.6) 385(-8.25,16.6) 386(-8.55,16.6) 387(-8.85,16.6) 388(-9.15,16.6) 389(-9.45,16.6) 390(-9.75,16.6) 391(-10.05,16.6) 392(-10.35,16.6) 393(-10.65,16.6) 394(-10.95,16.6) 395(-11.25,16.6) 396(-11.55,16.6) 397(-11.85,16.6) 398(-12.15,16.6) 399(-12.45,16.6) 400(-12.75,16.6) 401(-13.05,16.6) 402(-13.35,16.6) 403(-13.65,16.6) 404(-13.95,16.6) 405(-14.25,16.6) 406(-14.55,16.6) 407(-14.85,16.6) 408(-15.15,16.6)
Top Overlay:
  circle w0.25: c-17.96,15.15 r0.125
  circle w0.6: c-14.4,14.4 r0.3
  lines w0.2: -15.4,-15.4 15.4,-15.4 15.4,15.4 -15.4,15.4 -15.4,-15.4

## F-QFP36x36-G456/N [mm] "QFP; 456 Leads; Body 36 x 36 mm; Pitch 0.3 mm"
height 4.2
pads (456):
  rect 1.6x0.17 smd: 1(-18.6,16.95) 2(-18.6,16.65) 3(-18.6,16.35) 4(-18.6,16.05) 5(-18.6,15.75) 6(-18.6,15.45) 7(-18.6,15.15) 8(-18.6,14.85) 9(-18.6,14.55) 10(-18.6,14.25) 11(-18.6,13.95) 12(-18.6,13.65) 13(-18.6,13.35) 14(-18.6,13.05) 15(-18.6,12.75) 16(-18.6,12.45) 17(-18.6,12.15) 18(-18.6,11.85) 19(-18.6,11.55) 20(-18.6,11.25) 21(-18.6,10.95) 22(-18.6,10.65) 23(-18.6,10.35) 24(-18.6,10.05) 25(-18.6,9.75) 26(-18.6,9.45) 27(-18.6,9.15) 28(-18.6,8.85) 29(-18.6,8.55) 30(-18.6,8.25) 31(-18.6,7.95) 32(-18.6,7.65) 33(-18.6,7.35) 34(-18.6,7.05) 35(-18.6,6.75) 36(-18.6,6.45) 37(-18.6,6.15) 38(-18.6,5.85) 39(-18.6,5.55) 40(-18.6,5.25) 41(-18.6,4.95) 42(-18.6,4.65) 43(-18.6,4.35) 44(-18.6,4.05) 45(-18.6,3.75) 46(-18.6,3.45) 47(-18.6,3.15) 48(-18.6,2.85) 49(-18.6,2.55) 50(-18.6,2.25) 51(-18.6,1.95) 52(-18.6,1.65) 53(-18.6,1.35) 54(-18.6,1.05) 55(-18.6,0.75) 56(-18.6,0.45) 57(-18.6,0.15) 58(-18.6,-0.15) 59(-18.6,-0.45) 60(-18.6,-0.75) 61(-18.6,-1.05) 62(-18.6,-1.35) 63(-18.6,-1.65) 64(-18.6,-1.95) 65(-18.6,-2.25) 66(-18.6,-2.55) 67(-18.6,-2.85) 68(-18.6,-3.15) 69(-18.6,-3.45) 70(-18.6,-3.75) 71(-18.6,-4.05) 72(-18.6,-4.35) 73(-18.6,-4.65) 74(-18.6,-4.95) 75(-18.6,-5.25) 76(-18.6,-5.55) 77(-18.6,-5.85) 78(-18.6,-6.15) 79(-18.6,-6.45) 80(-18.6,-6.75) 81(-18.6,-7.05) 82(-18.6,-7.35) 83(-18.6,-7.65) 84(-18.6,-7.95) 85(-18.6,-8.25) 86(-18.6,-8.55) 87(-18.6,-8.85) 88(-18.6,-9.15) 89(-18.6,-9.45) 90(-18.6,-9.75) 91(-18.6,-10.05) 92(-18.6,-10.35) 93(-18.6,-10.65) 94(-18.6,-10.95) 95(-18.6,-11.25) 96(-18.6,-11.55) 97(-18.6,-11.85) 98(-18.6,-12.15) 99(-18.6,-12.45) 100(-18.6,-12.75) 101(-18.6,-13.05) 102(-18.6,-13.35) 103(-18.6,-13.65) 104(-18.6,-13.95) 105(-18.6,-14.25) 106(-18.6,-14.55) 107(-18.6,-14.85) 108(-18.6,-15.15) 109(-18.6,-15.45) 110(-18.6,-15.75) 111(-18.6,-16.05) 112(-18.6,-16.35) 113(-18.6,-16.65) 114(-18.6,-16.95) 229(18.6,-16.95) 230(18.6,-16.65) 231(18.6,-16.35) 232(18.6,-16.05) 233(18.6,-15.75) 234(18.6,-15.45) 235(18.6,-15.15) 236(18.6,-14.85) 237(18.6,-14.55) 238(18.6,-14.25) 239(18.6,-13.95) 240(18.6,-13.65) 241(18.6,-13.35) 242(18.6,-13.05) 243(18.6,-12.75) 244(18.6,-12.45) 245(18.6,-12.15) 246(18.6,-11.85) 247(18.6,-11.55) 248(18.6,-11.25) 249(18.6,-10.95) 250(18.6,-10.65) 251(18.6,-10.35) 252(18.6,-10.05) 253(18.6,-9.75) 254(18.6,-9.45) 255(18.6,-9.15) 256(18.6,-8.85) 257(18.6,-8.55) 258(18.6,-8.25) 259(18.6,-7.95) 260(18.6,-7.65) 261(18.6,-7.35) 262(18.6,-7.05) 263(18.6,-6.75) 264(18.6,-6.45) 265(18.6,-6.15) 266(18.6,-5.85) 267(18.6,-5.55) 268(18.6,-5.25) 269(18.6,-4.95) 270(18.6,-4.65) 271(18.6,-4.35) 272(18.6,-4.05) 273(18.6,-3.75) 274(18.6,-3.45) 275(18.6,-3.15) 276(18.6,-2.85) 277(18.6,-2.55) 278(18.6,-2.25) 279(18.6,-1.95) 280(18.6,-1.65) 281(18.6,-1.35) 282(18.6,-1.05) 283(18.6,-0.75) 284(18.6,-0.45) 285(18.6,-0.15) 286(18.6,0.15) 287(18.6,0.45) 288(18.6,0.75) 289(18.6,1.05) 290(18.6,1.35) 291(18.6,1.65) 292(18.6,1.95) 293(18.6,2.25) 294(18.6,2.55) 295(18.6,2.85) 296(18.6,3.15) 297(18.6,3.45) 298(18.6,3.75) 299(18.6,4.05) 300(18.6,4.35) 301(18.6,4.65) 302(18.6,4.95) 303(18.6,5.25) 304(18.6,5.55) 305(18.6,5.85) 306(18.6,6.15) 307(18.6,6.45) 308(18.6,6.75) 309(18.6,7.05) 310(18.6,7.35) 311(18.6,7.65) 312(18.6,7.95) 313(18.6,8.25) 314(18.6,8.55) 315(18.6,8.85) 316(18.6,9.15) 317(18.6,9.45) 318(18.6,9.75) 319(18.6,10.05) 320(18.6,10.35) 321(18.6,10.65) 322(18.6,10.95) 323(18.6,11.25) 324(18.6,11.55) 325(18.6,11.85) 326(18.6,12.15) 327(18.6,12.45) 328(18.6,12.75) 329(18.6,13.05) 330(18.6,13.35) 331(18.6,13.65) 332(18.6,13.95) 333(18.6,14.25) 334(18.6,14.55) 335(18.6,14.85) 336(18.6,15.15) 337(18.6,15.45) 338(18.6,15.75) 339(18.6,16.05) 340(18.6,16.35) 341(18.6,16.65) 342(18.6,16.95)
  rect 0.17x1.6 smd: 115(-16.95,-18.6) 116(-16.65,-18.6) 117(-16.35,-18.6) 118(-16.05,-18.6) 119(-15.75,-18.6) 120(-15.45,-18.6) 121(-15.15,-18.6) 122(-14.85,-18.6) 123(-14.55,-18.6) 124(-14.25,-18.6) 125(-13.95,-18.6) 126(-13.65,-18.6) 127(-13.35,-18.6) 128(-13.05,-18.6) 129(-12.75,-18.6) 130(-12.45,-18.6) 131(-12.15,-18.6) 132(-11.85,-18.6) 133(-11.55,-18.6) 134(-11.25,-18.6) 135(-10.95,-18.6) 136(-10.65,-18.6) 137(-10.35,-18.6) 138(-10.05,-18.6) 139(-9.75,-18.6) 140(-9.45,-18.6) 141(-9.15,-18.6) 142(-8.85,-18.6) 143(-8.55,-18.6) 144(-8.25,-18.6) 145(-7.95,-18.6) 146(-7.65,-18.6) 147(-7.35,-18.6) 148(-7.05,-18.6) 149(-6.75,-18.6) 150(-6.45,-18.6) 151(-6.15,-18.6) 152(-5.85,-18.6) 153(-5.55,-18.6) 154(-5.25,-18.6) 155(-4.95,-18.6) 156(-4.65,-18.6) 157(-4.35,-18.6) 158(-4.05,-18.6) 159(-3.75,-18.6) 160(-3.45,-18.6) 161(-3.15,-18.6) 162(-2.85,-18.6) 163(-2.55,-18.6) 164(-2.25,-18.6) 165(-1.95,-18.6) 166(-1.65,-18.6) 167(-1.35,-18.6) 168(-1.05,-18.6) 169(-0.75,-18.6) 170(-0.45,-18.6) 171(-0.15,-18.6) 172(0.15,-18.6) 173(0.45,-18.6) 174(0.75,-18.6) 175(1.05,-18.6) 176(1.35,-18.6) 177(1.65,-18.6) 178(1.95,-18.6) 179(2.25,-18.6) 180(2.55,-18.6) 181(2.85,-18.6) 182(3.15,-18.6) 183(3.45,-18.6) 184(3.75,-18.6) 185(4.05,-18.6) 186(4.35,-18.6) 187(4.65,-18.6) 188(4.95,-18.6) 189(5.25,-18.6) 190(5.55,-18.6) 191(5.85,-18.6) 192(6.15,-18.6) 193(6.45,-18.6) 194(6.75,-18.6) 195(7.05,-18.6) 196(7.35,-18.6) 197(7.65,-18.6) 198(7.95,-18.6) 199(8.25,-18.6) 200(8.55,-18.6) 201(8.85,-18.6) 202(9.15,-18.6) 203(9.45,-18.6) 204(9.75,-18.6) 205(10.05,-18.6) 206(10.35,-18.6) 207(10.65,-18.6) 208(10.95,-18.6) 209(11.25,-18.6) 210(11.55,-18.6) 211(11.85,-18.6) 212(12.15,-18.6) 213(12.45,-18.6) 214(12.75,-18.6) 215(13.05,-18.6) 216(13.35,-18.6) 217(13.65,-18.6) 218(13.95,-18.6) 219(14.25,-18.6) 220(14.55,-18.6) 221(14.85,-18.6) 222(15.15,-18.6) 223(15.45,-18.6) 224(15.75,-18.6) 225(16.05,-18.6) 226(16.35,-18.6) 227(16.65,-18.6) 228(16.95,-18.6) 343(16.95,18.6) 344(16.65,18.6) 345(16.35,18.6) 346(16.05,18.6) 347(15.75,18.6) 348(15.45,18.6) 349(15.15,18.6) 350(14.85,18.6) 351(14.55,18.6) 352(14.25,18.6) 353(13.95,18.6) 354(13.65,18.6) 355(13.35,18.6) 356(13.05,18.6) 357(12.75,18.6) 358(12.45,18.6) 359(12.15,18.6) 360(11.85,18.6) 361(11.55,18.6) 362(11.25,18.6) 363(10.95,18.6) 364(10.65,18.6) 365(10.35,18.6) 366(10.05,18.6) 367(9.75,18.6) 368(9.45,18.6) 369(9.15,18.6) 370(8.85,18.6) 371(8.55,18.6) 372(8.25,18.6) 373(7.95,18.6) 374(7.65,18.6) 375(7.35,18.6) 376(7.05,18.6) 377(6.75,18.6) 378(6.45,18.6) 379(6.15,18.6) 380(5.85,18.6) 381(5.55,18.6) 382(5.25,18.6) 383(4.95,18.6) 384(4.65,18.6) 385(4.35,18.6) 386(4.05,18.6) 387(3.75,18.6) 388(3.45,18.6) 389(3.15,18.6) 390(2.85,18.6) 391(2.55,18.6) 392(2.25,18.6) 393(1.95,18.6) 394(1.65,18.6) 395(1.35,18.6) 396(1.05,18.6) 397(0.75,18.6) 398(0.45,18.6) 399(0.15,18.6) 400(-0.15,18.6) 401(-0.45,18.6) 402(-0.75,18.6) 403(-1.05,18.6) 404(-1.35,18.6) 405(-1.65,18.6) 406(-1.95,18.6) 407(-2.25,18.6) 408(-2.55,18.6) 409(-2.85,18.6) 410(-3.15,18.6) 411(-3.45,18.6) 412(-3.75,18.6) 413(-4.05,18.6) 414(-4.35,18.6) 415(-4.65,18.6) 416(-4.95,18.6) 417(-5.25,18.6) 418(-5.55,18.6) 419(-5.85,18.6) 420(-6.15,18.6) 421(-6.45,18.6) 422(-6.75,18.6) 423(-7.05,18.6) 424(-7.35,18.6) 425(-7.65,18.6) 426(-7.95,18.6) 427(-8.25,18.6) 428(-8.55,18.6) 429(-8.85,18.6) 430(-9.15,18.6) 431(-9.45,18.6) 432(-9.75,18.6) 433(-10.05,18.6) 434(-10.35,18.6) 435(-10.65,18.6) 436(-10.95,18.6) 437(-11.25,18.6) 438(-11.55,18.6) 439(-11.85,18.6) 440(-12.15,18.6) 441(-12.45,18.6) 442(-12.75,18.6) 443(-13.05,18.6) 444(-13.35,18.6) 445(-13.65,18.6) 446(-13.95,18.6) 447(-14.25,18.6) 448(-14.55,18.6) 449(-14.85,18.6) 450(-15.15,18.6) 451(-15.45,18.6) 452(-15.75,18.6) 453(-16.05,18.6) 454(-16.35,18.6) 455(-16.65,18.6) 456(-16.95,18.6)
Top Overlay:
  circle w0.25: c-19.96,16.95 r0.125
  circle w0.6: c-16.4,16.4 r0.3
  lines w0.2: -17.4,-17.4 17.4,-17.4 17.4,17.4 -17.4,17.4 -17.4,-17.4

## F-QFP36x36-G464/N [mm] "QFP; 464 Leads; Body 36 x 36 mm; Pitch 0.3 mm"
height 4.2
pads (464):
  rect 1.6x0.17 smd: 1(-18.6,17.25) 2(-18.6,16.95) 3(-18.6,16.65) 4(-18.6,16.35) 5(-18.6,16.05) 6(-18.6,15.75) 7(-18.6,15.45) 8(-18.6,15.15) 9(-18.6,14.85) 10(-18.6,14.55) 11(-18.6,14.25) 12(-18.6,13.95) 13(-18.6,13.65) 14(-18.6,13.35) 15(-18.6,13.05) 16(-18.6,12.75) 17(-18.6,12.45) 18(-18.6,12.15) 19(-18.6,11.85) 20(-18.6,11.55) 21(-18.6,11.25) 22(-18.6,10.95) 23(-18.6,10.65) 24(-18.6,10.35) 25(-18.6,10.05) 26(-18.6,9.75) 27(-18.6,9.45) 28(-18.6,9.15) 29(-18.6,8.85) 30(-18.6,8.55) 31(-18.6,8.25) 32(-18.6,7.95) 33(-18.6,7.65) 34(-18.6,7.35) 35(-18.6,7.05) 36(-18.6,6.75) 37(-18.6,6.45) 38(-18.6,6.15) 39(-18.6,5.85) 40(-18.6,5.55) 41(-18.6,5.25) 42(-18.6,4.95) 43(-18.6,4.65) 44(-18.6,4.35) 45(-18.6,4.05) 46(-18.6,3.75) 47(-18.6,3.45) 48(-18.6,3.15) 49(-18.6,2.85) 50(-18.6,2.55) 51(-18.6,2.25) 52(-18.6,1.95) 53(-18.6,1.65) 54(-18.6,1.35) 55(-18.6,1.05) 56(-18.6,0.75) 57(-18.6,0.45) 58(-18.6,0.15) 59(-18.6,-0.15) 60(-18.6,-0.45) 61(-18.6,-0.75) 62(-18.6,-1.05) 63(-18.6,-1.35) 64(-18.6,-1.65) 65(-18.6,-1.95) 66(-18.6,-2.25) 67(-18.6,-2.55) 68(-18.6,-2.85) 69(-18.6,-3.15) 70(-18.6,-3.45) 71(-18.6,-3.75) 72(-18.6,-4.05) 73(-18.6,-4.35) 74(-18.6,-4.65) 75(-18.6,-4.95) 76(-18.6,-5.25) 77(-18.6,-5.55) 78(-18.6,-5.85) 79(-18.6,-6.15) 80(-18.6,-6.45) 81(-18.6,-6.75) 82(-18.6,-7.05) 83(-18.6,-7.35) 84(-18.6,-7.65) 85(-18.6,-7.95) 86(-18.6,-8.25) 87(-18.6,-8.55) 88(-18.6,-8.85) 89(-18.6,-9.15) 90(-18.6,-9.45) 91(-18.6,-9.75) 92(-18.6,-10.05) 93(-18.6,-10.35) 94(-18.6,-10.65) 95(-18.6,-10.95) 96(-18.6,-11.25) 97(-18.6,-11.55) 98(-18.6,-11.85) 99(-18.6,-12.15) 100(-18.6,-12.45) 101(-18.6,-12.75) 102(-18.6,-13.05) 103(-18.6,-13.35) 104(-18.6,-13.65) 105(-18.6,-13.95) 106(-18.6,-14.25) 107(-18.6,-14.55) 108(-18.6,-14.85) 109(-18.6,-15.15) 110(-18.6,-15.45) 111(-18.6,-15.75) 112(-18.6,-16.05) 113(-18.6,-16.35) 114(-18.6,-16.65) 115(-18.6,-16.95) 116(-18.6,-17.25) 233(18.6,-17.25) 234(18.6,-16.95) 235(18.6,-16.65) 236(18.6,-16.35) 237(18.6,-16.05) 238(18.6,-15.75) 239(18.6,-15.45) 240(18.6,-15.15) 241(18.6,-14.85) 242(18.6,-14.55) 243(18.6,-14.25) 244(18.6,-13.95) 245(18.6,-13.65) 246(18.6,-13.35) 247(18.6,-13.05) 248(18.6,-12.75) 249(18.6,-12.45) 250(18.6,-12.15) 251(18.6,-11.85) 252(18.6,-11.55) 253(18.6,-11.25) 254(18.6,-10.95) 255(18.6,-10.65) 256(18.6,-10.35) 257(18.6,-10.05) 258(18.6,-9.75) 259(18.6,-9.45) 260(18.6,-9.15) 261(18.6,-8.85) 262(18.6,-8.55) 263(18.6,-8.25) 264(18.6,-7.95) 265(18.6,-7.65) 266(18.6,-7.35) 267(18.6,-7.05) 268(18.6,-6.75) 269(18.6,-6.45) 270(18.6,-6.15) 271(18.6,-5.85) 272(18.6,-5.55) 273(18.6,-5.25) 274(18.6,-4.95) 275(18.6,-4.65) 276(18.6,-4.35) 277(18.6,-4.05) 278(18.6,-3.75) 279(18.6,-3.45) 280(18.6,-3.15) 281(18.6,-2.85) 282(18.6,-2.55) 283(18.6,-2.25) 284(18.6,-1.95) 285(18.6,-1.65) 286(18.6,-1.35) 287(18.6,-1.05) 288(18.6,-0.75) 289(18.6,-0.45) 290(18.6,-0.15) 291(18.6,0.15) 292(18.6,0.45) 293(18.6,0.75) 294(18.6,1.05) 295(18.6,1.35) 296(18.6,1.65) 297(18.6,1.95) 298(18.6,2.25) 299(18.6,2.55) 300(18.6,2.85) 301(18.6,3.15) 302(18.6,3.45) 303(18.6,3.75) 304(18.6,4.05) 305(18.6,4.35) 306(18.6,4.65) 307(18.6,4.95) 308(18.6,5.25) 309(18.6,5.55) 310(18.6,5.85) 311(18.6,6.15) 312(18.6,6.45) 313(18.6,6.75) 314(18.6,7.05) 315(18.6,7.35) 316(18.6,7.65) 317(18.6,7.95) 318(18.6,8.25) 319(18.6,8.55) 320(18.6,8.85) 321(18.6,9.15) 322(18.6,9.45) 323(18.6,9.75) 324(18.6,10.05) 325(18.6,10.35) 326(18.6,10.65) 327(18.6,10.95) 328(18.6,11.25) 329(18.6,11.55) 330(18.6,11.85) 331(18.6,12.15) 332(18.6,12.45) 333(18.6,12.75) 334(18.6,13.05) 335(18.6,13.35) 336(18.6,13.65) 337(18.6,13.95) 338(18.6,14.25) 339(18.6,14.55) 340(18.6,14.85) 341(18.6,15.15) 342(18.6,15.45) 343(18.6,15.75) 344(18.6,16.05) 345(18.6,16.35) 346(18.6,16.65) 347(18.6,16.95) 348(18.6,17.25)
  rect 0.17x1.6 smd: 117(-17.25,-18.6) 118(-16.95,-18.6) 119(-16.65,-18.6) 120(-16.35,-18.6) 121(-16.05,-18.6) 122(-15.75,-18.6) 123(-15.45,-18.6) 124(-15.15,-18.6) 125(-14.85,-18.6) 126(-14.55,-18.6) 127(-14.25,-18.6) 128(-13.95,-18.6) 129(-13.65,-18.6) 130(-13.35,-18.6) 131(-13.05,-18.6) 132(-12.75,-18.6) 133(-12.45,-18.6) 134(-12.15,-18.6) 135(-11.85,-18.6) 136(-11.55,-18.6) 137(-11.25,-18.6) 138(-10.95,-18.6) 139(-10.65,-18.6) 140(-10.35,-18.6) 141(-10.05,-18.6) 142(-9.75,-18.6) 143(-9.45,-18.6) 144(-9.15,-18.6) 145(-8.85,-18.6) 146(-8.55,-18.6) 147(-8.25,-18.6) 148(-7.95,-18.6) 149(-7.65,-18.6) 150(-7.35,-18.6) 151(-7.05,-18.6) 152(-6.75,-18.6) 153(-6.45,-18.6) 154(-6.15,-18.6) 155(-5.85,-18.6) 156(-5.55,-18.6) 157(-5.25,-18.6) 158(-4.95,-18.6) 159(-4.65,-18.6) 160(-4.35,-18.6) 161(-4.05,-18.6) 162(-3.75,-18.6) 163(-3.45,-18.6) 164(-3.15,-18.6) 165(-2.85,-18.6) 166(-2.55,-18.6) 167(-2.25,-18.6) 168(-1.95,-18.6) 169(-1.65,-18.6) 170(-1.35,-18.6) 171(-1.05,-18.6) 172(-0.75,-18.6) 173(-0.45,-18.6) 174(-0.15,-18.6) 175(0.15,-18.6) 176(0.45,-18.6) 177(0.75,-18.6) 178(1.05,-18.6) 179(1.35,-18.6) 180(1.65,-18.6) 181(1.95,-18.6) 182(2.25,-18.6) 183(2.55,-18.6) 184(2.85,-18.6) 185(3.15,-18.6) 186(3.45,-18.6) 187(3.75,-18.6) 188(4.05,-18.6) 189(4.35,-18.6) 190(4.65,-18.6) 191(4.95,-18.6) 192(5.25,-18.6) 193(5.55,-18.6) 194(5.85,-18.6) 195(6.15,-18.6) 196(6.45,-18.6) 197(6.75,-18.6) 198(7.05,-18.6) 199(7.35,-18.6) 200(7.65,-18.6) 201(7.95,-18.6) 202(8.25,-18.6) 203(8.55,-18.6) 204(8.85,-18.6) 205(9.15,-18.6) 206(9.45,-18.6) 207(9.75,-18.6) 208(10.05,-18.6) 209(10.35,-18.6) 210(10.65,-18.6) 211(10.95,-18.6) 212(11.25,-18.6) 213(11.55,-18.6) 214(11.85,-18.6) 215(12.15,-18.6) 216(12.45,-18.6) 217(12.75,-18.6) 218(13.05,-18.6) 219(13.35,-18.6) 220(13.65,-18.6) 221(13.95,-18.6) 222(14.25,-18.6) 223(14.55,-18.6) 224(14.85,-18.6) 225(15.15,-18.6) 226(15.45,-18.6) 227(15.75,-18.6) 228(16.05,-18.6) 229(16.35,-18.6) 230(16.65,-18.6) 231(16.95,-18.6) 232(17.25,-18.6) 349(17.25,18.6) 350(16.95,18.6) 351(16.65,18.6) 352(16.35,18.6) 353(16.05,18.6) 354(15.75,18.6) 355(15.45,18.6) 356(15.15,18.6) 357(14.85,18.6) 358(14.55,18.6) 359(14.25,18.6) 360(13.95,18.6) 361(13.65,18.6) 362(13.35,18.6) 363(13.05,18.6) 364(12.75,18.6) 365(12.45,18.6) 366(12.15,18.6) 367(11.85,18.6) 368(11.55,18.6) 369(11.25,18.6) 370(10.95,18.6) 371(10.65,18.6) 372(10.35,18.6) 373(10.05,18.6) 374(9.75,18.6) 375(9.45,18.6) 376(9.15,18.6) 377(8.85,18.6) 378(8.55,18.6) 379(8.25,18.6) 380(7.95,18.6) 381(7.65,18.6) 382(7.35,18.6) 383(7.05,18.6) 384(6.75,18.6) 385(6.45,18.6) 386(6.15,18.6) 387(5.85,18.6) 388(5.55,18.6) 389(5.25,18.6) 390(4.95,18.6) 391(4.65,18.6) 392(4.35,18.6) 393(4.05,18.6) 394(3.75,18.6) 395(3.45,18.6) 396(3.15,18.6) 397(2.85,18.6) 398(2.55,18.6) 399(2.25,18.6) 400(1.95,18.6) 401(1.65,18.6) 402(1.35,18.6) 403(1.05,18.6) 404(0.75,18.6) 405(0.45,18.6) 406(0.15,18.6) 407(-0.15,18.6) 408(-0.45,18.6) 409(-0.75,18.6) 410(-1.05,18.6) 411(-1.35,18.6) 412(-1.65,18.6) 413(-1.95,18.6) 414(-2.25,18.6) 415(-2.55,18.6) 416(-2.85,18.6) 417(-3.15,18.6) 418(-3.45,18.6) 419(-3.75,18.6) 420(-4.05,18.6) 421(-4.35,18.6) 422(-4.65,18.6) 423(-4.95,18.6) 424(-5.25,18.6) 425(-5.55,18.6) 426(-5.85,18.6) 427(-6.15,18.6) 428(-6.45,18.6) 429(-6.75,18.6) 430(-7.05,18.6) 431(-7.35,18.6) 432(-7.65,18.6) 433(-7.95,18.6) 434(-8.25,18.6) 435(-8.55,18.6) 436(-8.85,18.6) 437(-9.15,18.6) 438(-9.45,18.6) 439(-9.75,18.6) 440(-10.05,18.6) 441(-10.35,18.6) 442(-10.65,18.6) 443(-10.95,18.6) 444(-11.25,18.6) 445(-11.55,18.6) 446(-11.85,18.6) 447(-12.15,18.6) 448(-12.45,18.6) 449(-12.75,18.6) 450(-13.05,18.6) 451(-13.35,18.6) 452(-13.65,18.6) 453(-13.95,18.6) 454(-14.25,18.6) 455(-14.55,18.6) 456(-14.85,18.6) 457(-15.15,18.6) 458(-15.45,18.6) 459(-15.75,18.6) 460(-16.05,18.6) 461(-16.35,18.6) 462(-16.65,18.6) 463(-16.95,18.6) 464(-17.25,18.6)
Top Overlay:
  circle w0.25: c-19.96,17.25 r0.125
  circle w0.6: c-16.4,16.4 r0.3
  lines w0.2: -17.4,-17.4 17.4,-17.4 17.4,17.4 -17.4,17.4 -17.4,-17.4